# Altium footprint library QFN.PcbLib: 12 footprints
Each footprint in its own frame and in the unit in brackets; x right, y up, seen from the top. Pads: shape width x height; smd on the part's side, far side on the other; paste and mask are expansions set on the pad; w line width, h text height; cw(c..) or ccw(c..) is an arc to the next point about the centre after c.
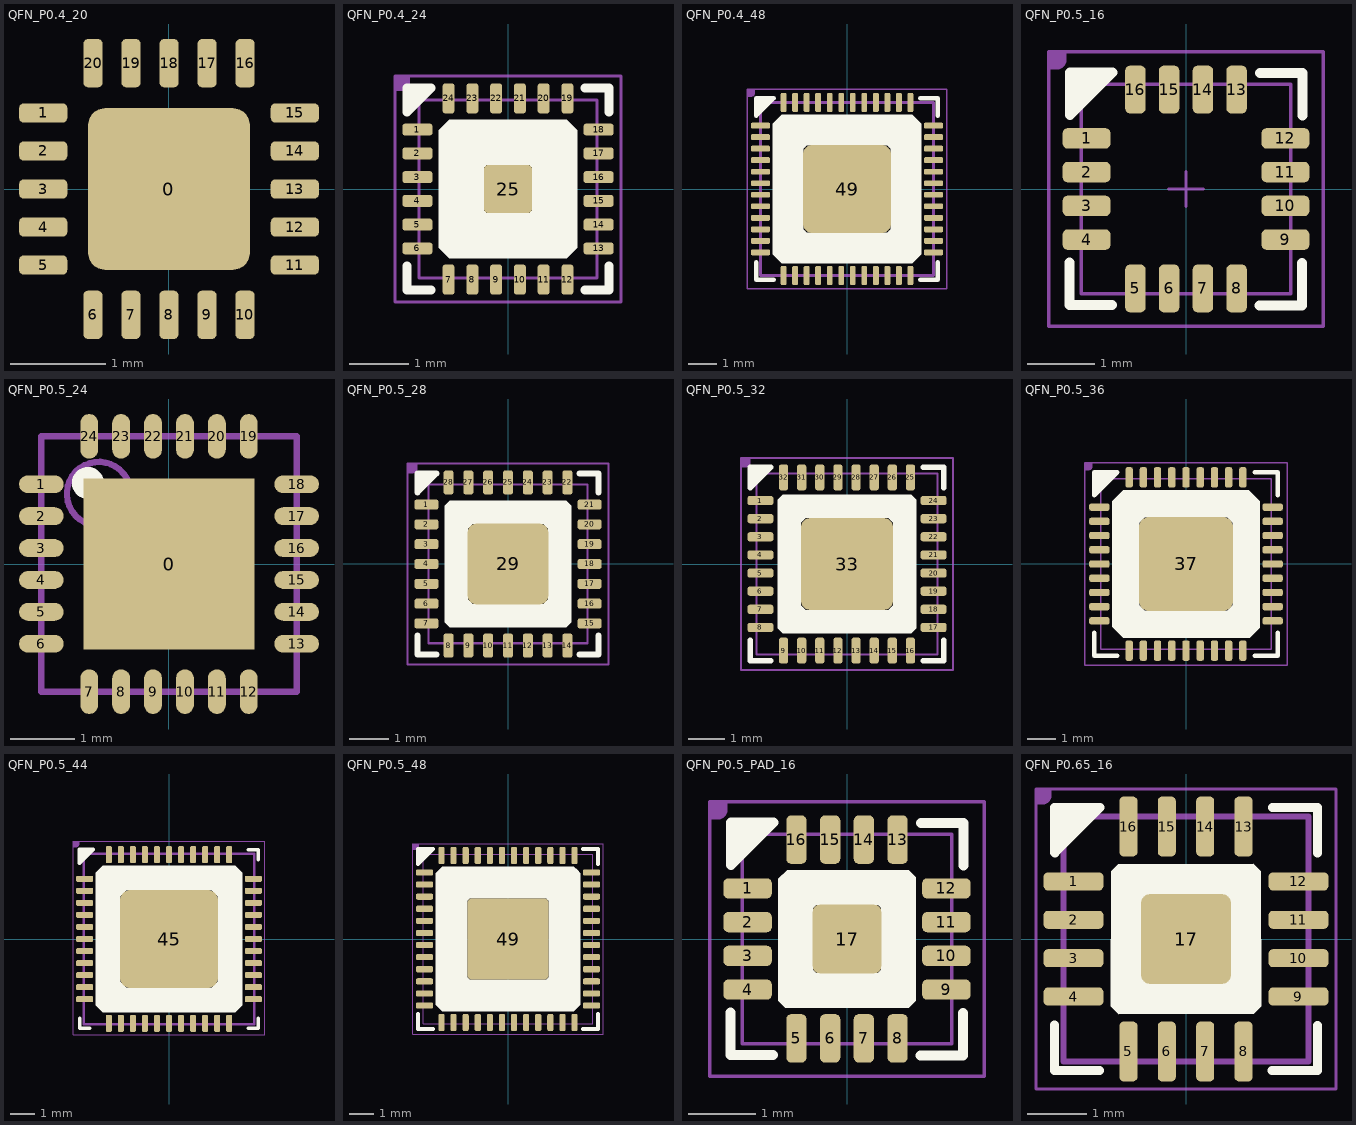
[diagram p0: the footprints below, top view; thin cyan lines are the x and y axes]

## QFN_P0.4_20 [mil]
height 39.37
pads (21):
  rrect20% 66.93x66.93 smd: 0(0,0)
  rrect50% 20x8 smd: 1(-52.11,31.5) 2(-52.11,15.75) 3(-52.11,0) 4(-52.11,-15.75) 5(-52.15,-31.5) 11(52.11,-31.5) 12(52.15,-15.75) 13(52.15,0) 14(52.15,15.75) 15(52.15,31.5)
  rrect50% 8x20 smd: 6(-31.52,-52.13) 7(-15.77,-52.13) 8(-0.02,-52.13) 9(15.73,-52.13) 10(31.48,-52.13) 16(31.52,52.13) 17(15.77,52.13) 18(0.02,52.13) 19(-15.73,52.13) 20(-31.48,52.13)
Mechanical 13:
  lines w2: -2.11,-7.87 17.89,-7.87 ; 7.89,-17.87 7.89,2.13
Mechanical 14:
  text ".Designator" at -33.44,-7.87 h49.21
3D body "User Library-QFN-20-2.STEP": height 29.53, standoff 0, extent -59.44,-59.44 59.46,59.46

## QFN_P0.4_24 [mil]
height 39.37
pads (25):
  rrect50% 20x8 smd: 1(-60,39.37) 2(-60,23.62) 3(-60,7.87) 4(-60,-7.87) 5(-60,-23.62) 6(-60,-39.37) 13(60,-39.37) 14(60,-23.62) 15(60,-7.87) 16(60,7.87) 17(60,23.62) 18(60,39.37)
  rrect50% 8x20 smd: 7(-39.37,-60) 8(-23.62,-60) 9(-7.87,-60) 10(7.87,-60) 11(23.62,-60) 12(39.37,-60) 19(39.37,60) 20(23.62,60) 21(7.87,60) 22(-7.87,60) 23(-23.62,60) 24(-39.37,60)
  rrect20% 32x32 smd: 25(0,0)
Top Overlay:
  region: -39,46 39,46 46,39 46,-39 39,-46 12,-46 12,-16 14,-16 16,-14 16,14 14,16 -14,16 -16,14 -16,-14 -14,-16 12,-16 12,-46 -39,-46 -46,-39 -46,39
  region: -67,67 -51,67 -67,51
  lines w6: -67,-51 -67,-67 -51,-67 ; 51,-67 67,-67 67,-51 ; 51,67 67,67 67,51 ; -67,51 -67,67 -51,67 -67,51
Top Solder:
  rectangle: -39.37,-70 39.37,-50
  region: 50,39.37 50,-39.37 70,-39.37 70,39.37
  rectangle: -39.37,50 39.37,70
  region: -70,39.37 -70,-39.37 -50,-39.37 -50,39.37
Mechanical 13:
  lines w2: -10,0 10,0 ; 0,-10 0,10 ; -59.05,-59.06 59.06,-59.06 59.06,59.06 -59.05,59.06 -59.05,-59.06
Mechanical 14:
  region: -75,75 -65,75 -65,70 -65,69.01 -65.76,67.17 -67.17,65.76 -69.01,65 -70,65 -75,65
  lines w2: -75,-75 -75,75 75,75 75,-75 -75,-75
  text ".Designator" at -41,-25 h100
3D body "QFN40P300X300X100-24L.step": height 39.37, standoff 0, extent -59.84,-59.84 59.85,59.85

## QFN_P0.4_48 [mil]
height 35.43
pads (49):
  rrect50% 26x8 smd: 1(-118,86.61) 2(-118,70.87) 3(-118,55.12) 4(-118,39.37) 5(-118,23.62) 6(-118,7.87) 7(-118,-7.87) 8(-118,-23.62) 9(-118,-39.37) 10(-118,-55.12) 11(-118,-70.87) 12(-118,-86.61) 25(118,-86.61) 26(118,-70.87) 27(118,-55.12) 28(118,-39.37) 29(118,-23.62) 30(118,-7.87) 31(118,7.87) 32(118,23.62) 33(118,39.37) 34(118,55.12) 35(118,70.87) 36(118,86.61)
  rrect50% 8x26 smd: 13(-86.61,-118) 14(-70.87,-118) 15(-55.12,-118) 16(-39.37,-118) 17(-23.62,-118) 18(-7.87,-118) 19(7.87,-118) 20(23.62,-118) 21(39.37,-118) 22(55.12,-118) 23(70.87,-118) 24(86.61,-118) 37(86.61,118) 38(70.87,118) 39(55.12,118) 40(39.37,118) 41(23.62,118) 42(7.87,118) 43(-7.87,118) 44(-23.62,118) 45(-39.37,118) 46(-55.12,118) 47(-70.87,118) 48(-86.61,118)
  rrect20% 120x120 smd: 49(0,0)
Top Overlay:
  region: -124.02,124.02 -100,124.02 -124.02,100
  region: -101,89 -89,101 -55,101 -55,60 -60,55 -60,-55 -55,-60 55,-60 60,-55 60,55 55,60 -55,60 -55,101 89,101 101,89 101,-89 89,-101 -89,-101 -101,-89
  lines w6: -124.02,-100 -124.02,-124.02 -100,-124.02 ; 100,-124.02 124.02,-124.02 124.02,-100 ; 100,124.02 124.02,124.02 124.02,100 ; -124.02,100 -124.02,124.02 -100,124.02 -124.02,100
Top Solder:
  rectangle: -86.61,-133 86.61,-103
  rectangle: -86.61,103 86.61,133
  region: 103,86.61 103,-86.61 133,-86.61 133,86.61
  region: -133,86.61 -133,-86.61 -103,-86.61 -103,86.61
Mechanical 13:
  lines w2: -10,0 10,0 ; 0,-10 0,10
  lines w3.94: -118.11,-118.11 -118.11,118.11 118.11,118.11 118.11,-118.11 -118.11,-118.11
Mechanical 14:
  region: -136,136 -126,136 -126,131 -126,130.01 -126.76,128.17 -128.17,126.76 -130.01,126 -131,126 -136,126
  lines w2: -136,-136 -136,136 136,136 136,-136 -136,-136
  text ".Designator" at -41,-25 h100
3D body "QFN40P600X600X90_HS-49N.step": height 35.43, standoff -0.04, extent -118.15,-118.15 118.15,118.15

## QFN_P0.5_16 [mil]
height 23.62
pads (16):
  rrect50% 28x12 smd: 1(-58,29.53) 2(-58,9.84) 3(-58,-9.84) 4(-58,-29.53) 9(58,-29.53) 10(58,-9.84) 11(58,9.84) 12(58,29.53)
  rrect50% 12x28 smd: 5(-29.53,-58) 6(-9.84,-58) 7(9.84,-58) 8(29.53,-58) 13(29.53,58) 14(9.84,58) 15(-9.84,58) 16(-29.53,58)
Top Overlay:
  region: -67.67,68 -43,68 -67.67,43.33
  lines w6: -68,-43 -68,-67.67 -43.33,-67.67 ; 43,-68 67.67,-68 67.67,-43.33 ; 43.33,67.67 68,67.67 68,43 ; -67.67,43.33 -43,68 -67.67,68 -67.67,43.33
Top Solder:
  region: 72,29.53 44,29.53 44,-29.53 72,-29.53
  region: -29.53,72 -29.53,44 29.53,44 29.53,72
  region: 29.53,-72 29.53,-44 -29.53,-44 -29.53,-72
  rectangle: -72,-29.53 -44,29.53
Mechanical 13:
  lines w2: -10,0 10,0 ; 0,-10 0,10 ; -61.02,-61.02 -61.02,61.02 61.02,61.02 61.02,-61.02 -61.02,-61.02
Mechanical 14:
  region: -80,80 -70,80 -70,75 -70,74.01 -70.76,72.17 -72.17,70.76 -74.01,70 -75,70 -80,70
  lines w2: -80,-80 80,-80 80,80 -80,80 -80,-80
  text ".Designator" at -41,-25 h100
3D body "QFN50P300X300X100-16N.step": height 39.37, standoff 0, extent -59.05,-59.05 59.06,59.06

## QFN_P0.5_24 [mm]
height 1
pads (25):
  rect 2.68x2.68 smd mask+0.051: 0(0,0)
  oval 0.7x0.28 smd mask+0.051: 1(-2,1.25) 2(-2,0.75) 3(-2,0.25) 4(-2,-0.25) 5(-2,-0.75) 6(-2,-1.25) 13(2,-1.25) 14(2,-0.75) 15(2,-0.25) 16(2,0.25) 17(2,0.75) 18(2,1.25)
  oval 0.28x0.7 smd mask+0.051: 7(-1.25,-2) 8(-0.75,-2) 9(-0.25,-2) 10(0.25,-2) 11(0.75,-2) 12(1.25,-2) 19(1.25,2) 20(0.75,2) 21(0.25,2) 22(-0.25,2) 23(-0.75,2) 24(-1.25,2)
Top Overlay:
  circle w0.25: c-1.27,1.27 r0.125
Mechanical 13:
  circle w0.1: c-1.1,1.1 r0.5
  lines w0.1: -2,-2 2,-2 2,2 -2,2 -2,-2
Mechanical 14:
  text ".Designator" at -1.6,-0.025 h1.25
3D body "QFN24-4X4.STEP": height 0.95, standoff -0.05, extent -2.01,-2.01 2.01,2.01

## QFN_P0.5_28 [mil]
height 23.62
pads (29):
  rrect50% 24x10 smd: 1(-81,59.06) 2(-81,39.37) 3(-81,19.68) 4(-81,0) 5(-81,-19.68) 6(-81,-39.37) 7(-81,-59.06) 15(81,-59.06) 16(81,-39.37) 17(81,-19.68) 18(81,0) 19(81,19.68) 20(81,39.37) 21(81,59.06)
  rrect50% 10x24 smd: 8(-59.06,-81) 9(-39.37,-81) 10(-19.68,-81) 11(0,-81) 12(19.68,-81) 13(39.37,-81) 14(59.06,-81) 22(59.06,81) 23(39.37,81) 24(19.68,81) 25(0,81) 26(-19.68,81) 27(-39.37,81)
  rrect50% 9.84x24 smd: 28(-59.06,81)
  rrect20% 80x80 smd: 29(0,0)
Top Overlay:
  region: -90,90 -71,90 -90,71
  region: 63,57.99 63,-58 58,-63 -58,-63 -63,-58 -63,58 -58,63 57.99,63 60.5,60.5 37.5,37.5 35,40 -35,40 -40,35 -40,-35 -35,-40 35,-40 40,-35 40.01,35 37.5,37.5 60.5,60.5
  lines w6: -90,-71 -90,-90 -71,-90 ; 71,-90 90,-90 90,-71 ; 71,90 90,90 90,71 ; -90,71 -71,90 -90,90 -90,71
Top Solder:
  region: -68,93 -68,69 68,69 68,93
  region: 93,68 69,68 69,-68.06 93,-68.06
  region: 68,-93 68,-69 -68.05,-69 -68.05,-93
  rectangle: -93,-68 -69,68.06
Mechanical 13:
  lines w2: -10,0 10,0 ; 0,-10 0,10 ; -78.74,-78.74 78.74,-78.74 78.74,78.74 -78.74,78.74 -78.74,-78.74
Mechanical 14:
  region: -100,100 -90,100 -90,95 -90,94.01 -90.76,92.17 -92.17,90.76 -94.01,90 -95,90 -100,90
  lines w2: -100,-100 -100,100 100,100 100,-100 -100,-100
  text ".Designator" at -41,-25 h100
3D body "QFN50P400X400X55-28L.step": height 21.65, standoff 0, extent -78.78,-78.78 78.78,78.78

## QFN_P0.5_32 [mil]
height 39.37
pads (33):
  rrect50% 28x10 smd: 1(-94,68.9) 2(-94,49.21) 3(-94,29.53) 4(-94,9.84) 5(-94,-9.84) 6(-94,-29.53) 7(-94,-49.21) 8(-94,-68.9) 17(94,-68.9) 18(94,-49.21) 19(94,-29.53) 20(94,-9.84) 21(94,9.84) 22(94,29.53) 23(94,49.21) 24(94,68.9)
  rrect50% 10x28 smd: 9(-68.9,-94) 10(-49.21,-94) 11(-29.53,-94) 12(-9.84,-94) 13(9.84,-94) 14(29.53,-94) 15(49.21,-94) 16(68.9,-94) 25(68.9,94) 26(49.21,94) 27(29.53,94) 28(9.84,94) 29(-9.84,94) 30(-29.53,94) 31(-49.21,94) 32(-68.9,94)
  rrect20% 100x100 smd: 33(0,0)
Top Overlay:
  region: 75,70 75,-70 70,-75 -70,-75 -75,-70 -75,70 -70,75 70.01,75 73,72 48,47 45,50 -44.99,50.01 -50,45 -50,-45 -45,-50 45,-50 50,-45 50,45 48,47 73,72
  region: -83,105 -105,105 -105,83
  lines w6: -105,-83 -105,-105 -83,-105 ; 83,-105 105,-105 105,-83 ; 83,105 105,105 105,83 ; -105,83 -105,105 -83,105 -105,83
Top Solder:
  region: 68.9,80 68.9,108 -68.9,108 -68.9,80
  region: 68.9,-108 68.9,-80 -68.9,-80 -68.9,-108
  region: -80,68.9 -108,68.9 -108,-68.9 -80,-68.9
  region: 108,68.9 80,68.9 80,-68.9 108,-68.9
Mechanical 13:
  lines w2: -10,0 10,0 ; 0,-10 0,10 ; -98.42,-98.42 -98.42,98.43 98.43,98.43 98.43,-98.42 -98.42,-98.42
Mechanical 14:
  region: -115,115 -105,115 -105,110 -105,109.01 -105.76,107.17 -107.17,105.76 -109.01,105 -110,105 -115,105
  lines w2: -115,-115 -115,115 115,115 115,-115 -115,-115
  text ".Designator" at -41,-25 h100
3D body "QFN50P500X500X55-32L.step": height 21.65, standoff 0, extent -99.21,-99.21 99.22,99.22

## QFN_P0.5_36 [mil]
height 39.37
pads (37):
  rrect50% 28x10 smd: 1(-120,78.74) 2(-120,59.06) 3(-120,39.37) 4(-120,19.69) 5(-120,0) 6(-120,-19.68) 7(-120,-39.37) 8(-120,-59.05) 9(-120,-78.74) 19(120,-78.74) 20(120,-59.05) 21(120,-39.37) 22(120,-19.68) 23(120,0) 24(120,19.68) 25(120,39.37) 26(120,59.06) 27(120,78.74)
  rrect50% 10x28 smd: 10(-78.74,-120) 11(-59.06,-120) 12(-39.37,-120) 13(-19.69,-120) 14(0,-120) 15(19.68,-120) 16(39.37,-120) 17(59.05,-120) 18(78.74,-120) 28(78.74,120) 29(59.05,120) 30(39.37,120) 31(19.68,120) 32(0,120) 33(-19.69,120) 34(-39.37,120) 35(-59.06,120) 36(-78.74,120)
  rrect20% 130x130 smd: 37(0,0)
Top Overlay:
  region: 102,87.01 102,-88 88,-102 -86.99,-102 -102,-87 -102,87 -87,102 87.01,101.99 95,94 61.5,60.5 57,65 -57,65 -65,57 -65,-57 -56.99,-65 57,-65 65,-57 65.01,57 61.5,60.5 95,94
  region: -127,127 -95,127 -127,95
  lines w6: -127,-95 -127,-127 -95,-127 ; 95,-127 127,-127 127,-95 ; 95,127 127,127 127,95 ; -127,95 -127,127 -95,127 -127,95
Top Solder:
  region: 87.74,106 87.74,134 -87.74,134 -87.74,106
  region: 87.74,-134 87.74,-106 -87.74,-106 -87.74,-134
  rectangle: 106,-87.74 134,87.74
  rectangle: -134,-87.74 -106,87.74
Mechanical 13:
  lines w2: -10,0 10,0 ; 0,-10 0,10 ; -118.11,-118.11 118.11,-118.11 118.11,118.11 -118.11,118.11 -118.11,-118.11
Mechanical 14:
  region: -140,140 -130,140 -130,135 -130,134.01 -130.76,132.17 -132.17,130.76 -134.01,130 -135,130 -140,130
  lines w2: -140,-140 -140,140 140,140 140,-140 -140,-140
  text ".Designator" at -41,-25 h100
3D body "QFN50P600X600X90-36L.step": height 35.43, standoff 0, extent -118.89,-118.89 118.9,118.9

## QFN_P0.5_44 [mil]
height 39.37
pads (45):
  rrect50% 28x10 smd: 1(-138,98.43) 2(-138,78.74) 3(-138,59.06) 4(-138,39.37) 5(-138,19.68) 6(-138,0) 7(-138,-19.69) 8(-138,-39.37) 9(-138,-59.06) 10(-138,-78.74) 11(-138,-98.43) 23(138,-98.43) 24(138,-78.74) 25(138,-59.05) 26(138,-39.37) 27(138,-19.68) 28(138,0) 29(138,19.69) 30(138,39.37) 31(138,59.06) 32(138,78.74) 33(138,98.43)
  rrect50% 10x28 smd: 12(-98.43,-138) 13(-78.74,-138) 14(-59.06,-138) 15(-39.37,-138) 16(-19.69,-138) 17(0,-138) 18(19.68,-138) 19(39.37,-138) 20(59.06,-138) 21(78.74,-138) 22(98.43,-138) 34(98.43,138) 35(78.74,138) 36(59.06,138) 37(39.37,138) 38(19.68,138) 39(0,138) 40(-19.69,138) 41(-39.37,138) 42(-59.06,138) 43(-78.74,138) 44(-98.43,138)
  rrect20% 160x160 smd: 45(0,0)
Top Overlay:
  region: 120,108 120,-108 108,-120 -108,-120 -120,-108 -120,108 -108,120 108,120 114,114 75,75 70,80 -70,80 -80,70 -80,-70 -70,-80 70,-80 80,-70 80,70 75,75 114,114
  region: -124.34,146.34 -146.34,146.34 -146.34,124.34
  lines w6: -145.76,-129.76 -145.76,-145.76 -129.76,-145.76 ; 129.76,-145.76 145.76,-145.76 145.76,-129.76 ; 129.76,145.76 145.76,145.76 145.76,129.76 ; -146.34,124.34 -124.34,146.34 -146.34,146.34 -146.34,124.34
Top Solder:
  rectangle: -152,-107.43 -124,107.43
  rectangle: 124,-107.43 152,107.43
  region: 107.43,124 107.43,152 -107.43,152 -107.43,124
  region: 107.43,-152 107.43,-124 -107.43,-124 -107.43,-152
Mechanical 13:
  lines w2: -10,0 10,0 ; 0,-10 0,10
  lines w4: -139.76,-139.76 139.76,-139.76 139.76,139.76 -139.76,139.76 -139.76,-139.76
Mechanical 14:
  region: -157,160 -147,160 -147,155 -147,154.01 -147.76,152.17 -149.17,150.76 -151.01,150 -152,150 -157,150
  lines w2: -157,-157 -157,160 157,160 157,-157 -157,-157
  text ".Designator" at -41,-25 h100
3D body "User Library-smd_qfn-44-2.STEP": height 35.43, standoff 0, extent -137.82,-137.83 137.84,137.84

## QFN_P0.5_48 [mil]
height 21.65
pads (49):
  rrect50% 28x10 smd: 1(-136,108.27) 2(-136,88.58) 3(-136,68.9) 4(-136,49.21) 5(-136,29.53) 6(-136,9.84) 7(-136,-9.84) 8(-136,-29.53) 9(-136,-49.21) 10(-136,-68.9) 11(-136,-88.58) 12(-136,-108.27) 25(136,-108.27) 26(136,-88.58) 27(136,-68.9) 28(136,-49.21) 29(136,-29.53) 30(136,-9.84) 31(136,9.84) 32(136,29.53) 33(136,49.21) 34(136,68.9) 35(136,88.58) 36(136,108.27)
  rrect50% 10x28 smd: 13(-108.27,-136) 14(-88.58,-136) 15(-68.9,-136) 16(-49.21,-136) 17(-29.53,-136) 18(-9.84,-136) 19(9.84,-136) 20(29.53,-136) 21(49.21,-136) 22(68.9,-136) 23(88.58,-136) 24(108.27,-136) 37(108.27,136) 38(88.58,136) 39(68.9,136) 40(49.21,136) 41(29.53,136) 42(9.84,136) 43(-9.84,136) 44(-29.53,136) 45(-49.21,136) 46(-68.9,136) 47(-88.58,136) 48(-108.27,136)
  rrect10% 132x132 smd: 49(0,0)
Top Overlay:
  region: 118,107 118,-107 107,-118 -107,-118 -118,-107 -118,107 -107,118 107,118 112.5,112.5 64,64 61.99,66 -62,66 -66,62 -66,-62 -62,-66 62,-66 66,-62 66,61.99 64,64 112.5,112.5
  region: -146.67,146.67 -122,146.67 -146.67,122
  lines w6: -146.67,-122 -146.67,-146.67 -122,-146.67 ; 122,-146.67 146.67,-146.67 146.67,-122 ; 122,146.67 146.67,146.67 146.67,122 ; -146.67,122 -122,146.67 -146.67,146.67 -146.67,122
Top Solder:
  rectangle: -150,-108.27 -122,108.27
  region: 108.27,-150 108.27,-122 -108.27,-122 -108.27,-150
  region: 150,108.27 122,108.27 122,-108.27 150,-108.27
  region: -108.27,150 -108.27,122 108.27,122 108.27,150
Mechanical 13:
  lines w2: -10,0 10,0 ; 0,-10 0,10 ; -137.79,-137.8 -137.79,137.8 137.8,137.8 137.8,-137.8 -137.79,-137.8
Mechanical 14:
  region: -155,155 -145,155 -145,150 -145,149.01 -145.76,147.17 -147.17,145.76 -149.01,145 -150,145 -155,145
  lines w2: -155,-155 155,-155 155,155 -155,155 -155,-155
  text ".Designator" at -41,-25 h100
3D body "QFN50P700X700X55-48L.step": height 21.65, standoff 0, extent -138.58,-138.58 138.58,138.59

## QFN_P0.5_PAD_16 [mm]
height 0.6
pads (17):
  rrect50% 0.72x0.3 smd: 1(-1.473,0.75) 2(-1.473,0.25) 3(-1.473,-0.25) 4(-1.473,-0.75) 9(1.473,-0.75) 10(1.473,-0.25) 11(1.473,0.25) 12(1.473,0.75)
  rrect50% 0.3x0.72 smd: 5(-0.75,-1.473) 6(-0.25,-1.473) 7(0.25,-1.473) 8(0.75,-1.473) 13(0.75,1.473) 14(0.25,1.473) 15(-0.25,1.473) 16(-0.75,1.473)
  rrect20% 1.016x1.016 smd: 17(0,0)
Top Overlay:
  region: 1.016,0.914 1.016,-0.914 0.914,-1.016 -0.914,-1.016 -1.016,-0.914 -1.015,0.89 -0.889,1.016 0.914,1.016 0.965,0.965 0.483,0.483 0.458,0.508 -0.457,0.508 -0.508,0.458 -0.508,-0.457 -0.457,-0.508 0.457,-0.508 0.508,-0.458 0.508,0.457 0.483,0.483 0.965,0.965
  region: -1.719,1.727 -1.092,1.727 -1.719,1.101
  lines w0.152: -1.727,-1.092 -1.727,-1.719 -1.101,-1.719 ; 1.092,-1.727 1.719,-1.727 1.719,-1.101 ; 1.101,1.719 1.727,1.719 1.727,1.092 ; -1.719,1.101 -1.719,1.727 -1.092,1.727 -1.719,1.101
Top Solder:
  rectangle: -1.829,-0.75 -1.118,0.75
  region: 0.75,-1.829 0.75,-1.118 -0.75,-1.118 -0.75,-1.829
  region: -0.75,1.829 -0.75,1.118 0.75,1.118 0.75,1.829
  region: 1.829,0.75 1.118,0.75 1.118,-0.75 1.829,-0.75
Mechanical 13:
  lines w0.051: -0.254,0 0.254,0 ; 0,-0.254 0,0.254 ; -1.55,-1.55 1.55,-1.55 1.55,1.55 -1.55,1.55 -1.55,-1.55
Mechanical 14:
  region: -2.032,2.032 -1.778,2.032 -1.778,1.905 -1.778,1.88 -1.797,1.833 -1.833,1.797 -1.88,1.778 -1.905,1.778 -2.032,1.778
  lines w0.051: -2.032,-2.032 -2.032,2.032 2.032,2.032 2.032,-2.032 -2.032,-2.032
  text ".Designator" at -1.041,-0.635 h2.54
3D body "QFN50P300X300X100-16N.step": height 1, standoff 0, extent -1.5,-1.5 1.5,1.5

## QFN_P0.65_16 [mil]
height 59.06
pads (17):
  rrect50% 40x12 smd: 1(-75,38.39) 2(-75,12.8) 3(-75,-12.8) 4(-75,-38.39) 9(75,-38.39) 10(75,-12.8) 11(75,12.8) 12(75,38.39)
  rrect50% 12x40 smd: 5(-38.39,-75) 6(-12.8,-75) 7(12.8,-75) 8(38.39,-75) 13(38.39,75) 14(12.8,75) 15(-12.8,75) 16(-38.39,75)
  rrect20% 60x60 smd: 17(0,0)
Top Overlay:
  region: 49.99,45 50,-45 45,-50 -45,-50 -50.04,-44.95 -50,45 -45,50 45,50 47.49,47.49 19.01,19.01 18.02,19.99 -17.99,20.01 -19.98,18.02 -20.01,-17.98 -17.99,-20 18,-20 19.99,-18.01 20.01,18 19.01,19.01 47.49,47.49
  region: -87.69,87.69 -57.51,87.69 -87.69,57.5
  lines w6: -87.6,-57.4 -87.6,-87.6 -57.6,-87.6 ; -87.6,57.6 -87.6,87.6 -57.4,87.6 -87.5,57.5 ; 57.4,-87.6 87.6,-87.6 87.6,-57.6 ; 57.6,87.6 87.6,87.6 87.6,57.4
Mechanical 13:
  lines w2: -10,0 10,0 ; 0,-10 0,10
  lines w3.94: -81.69,-81.69 81.69,-81.69 81.69,81.69 -81.69,81.69 -81.69,-81.69
Mechanical 14:
  region: -100,100 -90,100 -90,95 -90,94.01 -90.76,92.17 -92.17,90.76 -94.01,90 -95,90 -100,90
  lines w2: -100,-100 100,-100 100,100 -100,100 -100,-100
  text ".Designator" at -41,-25 h100
3D body "User Library-qfn16-4x4with pad.STEP": height 36.22, standoff 0, extent -78.73,-78.73 78.75,78.75